# Altium footprint library CHK-I.PcbLib: 19 footprints (part 2 of 2)
Each footprint in its own frame and in the unit in brackets; x right, y up, seen from the top. Pads: shape width x height; smd on the part's side, far side on the other; paste and mask are expansions set on the pad; w line width, h text height; cw(c..) or ccw(c..) is an arc to the next point about the centre after c.
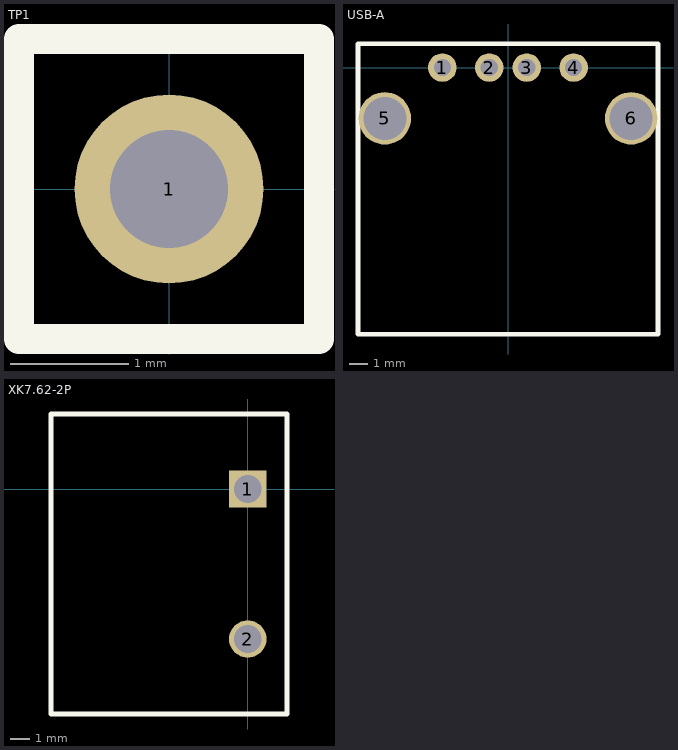
[diagram p1: the footprints below, top view; thin cyan lines are the x and y axes]

## TP1 [mm] "Test Point 1"
pads (1):
  round 1.6 hole 1: 1(0,0)
Top Overlay:
  lines w0.254: -1.27,-1.27 1.27,-1.27 1.27,1.27 -1.27,1.27 -1.27,-1.27

## USB-A [mm]
pads (6):
  round 1.524 hole 0.92: 1(-3.5,0) 2(-1,0) 3(1,0) 4(3.5,0)
  round 2.8 hole 2.3: 5(-6.57,-2.71) 6(6.57,-2.71)
Top Overlay:
  lines w0.25: -8.001,-14.2 -8.001,1.27 ; -8,-14.224 8,-14.224 ; -8,1.27 8,1.27 ; 8.001,-14.2 8.001,1.27

## XK7.62-2P [mm]
pads (2):
  rect 1.9x1.9 hole 1.4: 1(0,0)
  round 1.9 hole 1.4: 2(0,-7.62)
Top Overlay:
  lines w0.254: -10,-11.43 2,-11.43 2,3.81 -10,3.81 -10,-11.43